# Altium footprint library PCB - LEADLESS - QFN - TI LQFN-40 RVF0040A.PcbLib: 1 footprints
Each footprint in its own frame and in the unit in brackets; x right, y up, seen from the top. Pads: shape width x height; smd on the part's side, far side on the other; paste and mask are expansions set on the pad; w line width, h text height; cw(c..) or ccw(c..) is an arc to the next point about the centre after c.
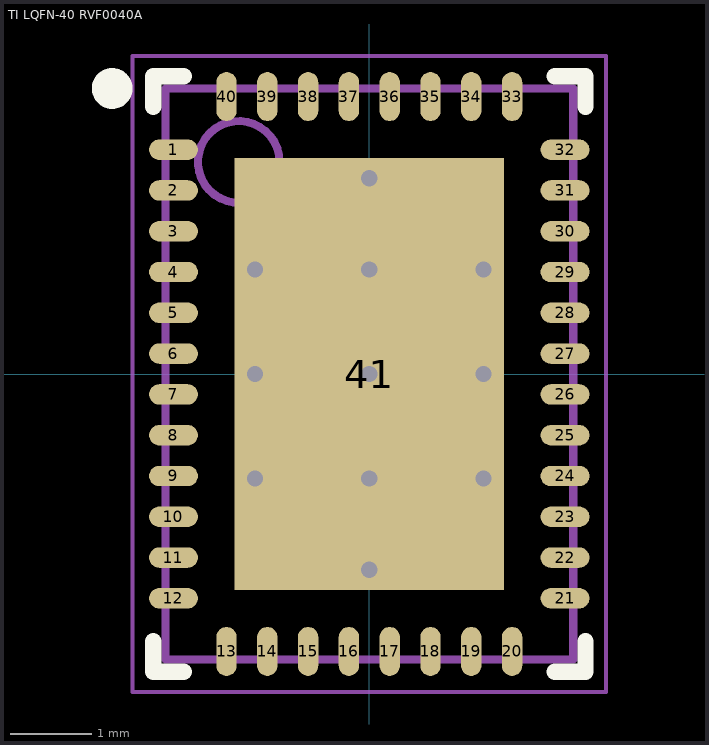
[diagram p0: the footprint, top view; thin cyan lines are the x and y axes]

## TI LQFN-40 RVF0040A [mm] "QFN, 40-Leads, Body 5.00x7.00mm, Pitch 0.50mm, Thermal Pad 3.30x5.30mm, IPC Medium Density"
height 1.52
pads (41):
  oval 0.6x0.25 smd: 1(-2.4,2.75) 2(-2.4,2.25) 3(-2.4,1.75) 4(-2.4,1.25) 5(-2.4,0.75) 6(-2.4,0.25) 7(-2.4,-0.25) 8(-2.4,-0.75) 9(-2.4,-1.25) 10(-2.4,-1.75) 11(-2.4,-2.25) 12(-2.4,-2.75) 21(2.4,-2.75) 22(2.4,-2.25) 23(2.4,-1.75) 24(2.4,-1.25) 25(2.4,-0.75) 26(2.4,-0.25) 27(2.4,0.25) 28(2.4,0.75) 29(2.4,1.25) 30(2.4,1.75) 31(2.4,2.25) 32(2.4,2.75)
  oval 0.25x0.6 smd: 13(-1.75,-3.4) 14(-1.25,-3.4) 15(-0.75,-3.4) 16(-0.25,-3.4) 17(0.25,-3.4) 18(0.75,-3.4) 19(1.25,-3.4) 20(1.75,-3.4) 33(1.75,3.4) 34(1.25,3.4) 35(0.75,3.4) 36(0.25,3.4) 37(-0.25,3.4) 38(-0.75,3.4) 39(-1.25,3.4) 40(-1.75,3.4)
  rect 3.3x5.3 smd: 41(0,0)
via 0,2.4 diameter 0.5 hole 0.2
via -1.4,1.28 diameter 0.5 hole 0.2
via 0,1.28 diameter 0.5 hole 0.2
via 1.4,1.28 diameter 0.5 hole 0.2
via -1.4,0 diameter 0.5 hole 0.2
via 0,0 diameter 0.5 hole 0.2
via 1.4,0 diameter 0.5 hole 0.2
via -1.4,-1.28 diameter 0.5 hole 0.2
via 0,-1.28 diameter 0.5 hole 0.2
via 1.4,-1.28 diameter 0.5 hole 0.2
via 0,-2.4 diameter 0.5 hole 0.2
Top Overlay:
  circle w0.25: c-3.15,3.5 r0.125
  lines w0.2: -2.65,-3.275 -2.65,-3.65 -2.275,-3.65 ; -2.65,3.275 -2.65,3.65 -2.275,3.65 ; 2.275,-3.65 2.65,-3.65 2.65,-3.275 ; 2.275,3.65 2.65,3.65 2.65,3.275
Mechanical 13:
  circle w0.1: c-1.6,2.6 r0.5
  lines w0.1: -2.5,-3.5 -2.5,3.5 2.5,3.5 2.5,-3.5 -2.5,-3.5
Mechanical 15:
  lines w0.05: -2.9,-3.9 -2.9,3.9 2.9,3.9 2.9,-3.9 -2.9,-3.9
  lines w0.1: -0.5,0 0.5,0 ; 0,-0.5 0,0.5
3D body "TI - LQFN-40 - RVF0040A v2.step": height 1.52, standoff 0, extent -2.5,-3.5 2.5,3.5